# EAGLE library part AK4490 (library Fugu_LSI)
Premium 32-Bit 2ch DAC
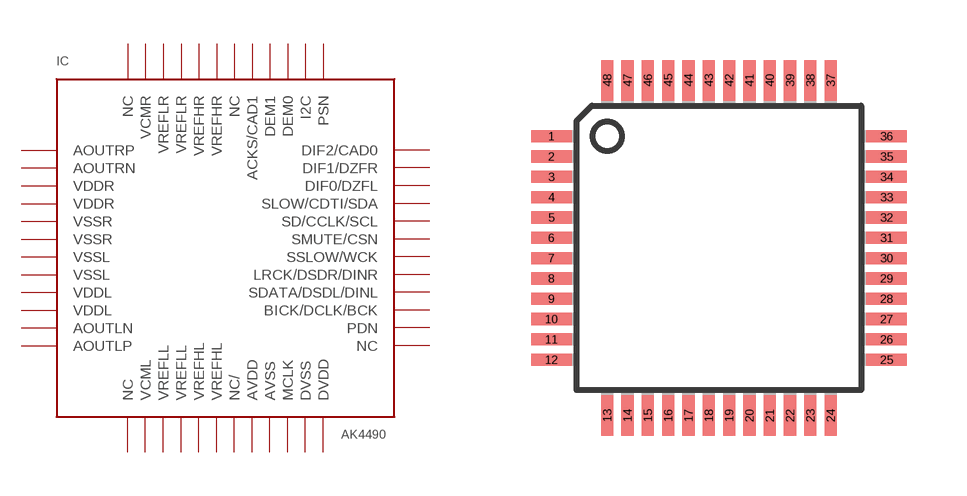
[diagram p3: symbol with the pads of TQFP48; footprint TQFP48]

Designator prefix IC

## AK4490  [TQFP48]
1  NC
2  PDN
3  BICK/DCLK/BCK
4  SDATA/DSDL/DINL
5  LRCK/DSDR/DINR
6  SSLOW/WCK
7  SMUTE/CSN
8  SD/CCLK/SCL
9  SLOW/CDTI/SDA
10  DIF0/DZFL
11  DIF1/DZFR
12  DIF2/CAD0
13  PSN
14  I2C
15  DEM0
16  DEM1
17  ACKS/CAD1
18  NC
19  VREFHR
20  VREFHR
21  VREFLR
22  VREFLR
23  VCMR
24  NC
25  AOUTRP
26  AOUTRN
27  VDDR
28  VDDR
29  VSSR
30  VSSR
31  VSSL
32  VSSL
33  VDDL
34  VDDL
35  AOUTLN
36  AOUTLP
37  NC
38  VCML
39  VREFLL
40  VREFLL
41  VREFHL
42  VREFHL
43  NC/
44  AVDD
45  AVSS
46  MCLK
47  DVSS
48  DVDD

## Footprint TQFP48 (pad centres in mm)
smd 1.016 x 0.305: 1 -4.191,2.794; 2 -4.191,2.286; 3 -4.191,1.778; 4 -4.191,1.27; 5 -4.191,0.762; 6 -4.191,0.254; 7 -4.191,-0.254; 8 -4.191,-0.762; 9 -4.191,-1.27; 10 -4.191,-1.778; 11 -4.191,-2.286; 12 -4.191,-2.794; 25 4.191,-2.794; 26 4.191,-2.286; 27 4.191,-1.778; 28 4.191,-1.27; 29 4.191,-0.762; 30 4.191,-0.254; 31 4.191,0.254; 32 4.191,0.762; 33 4.191,1.27; 34 4.191,1.778; 35 4.191,2.286; 36 4.191,2.794
smd 0.305 x 1.016: 13 -2.794,-4.191; 14 -2.286,-4.191; 15 -1.778,-4.191; 16 -1.27,-4.191; 17 -0.762,-4.191; 18 -0.254,-4.191; 19 0.254,-4.191; 20 0.762,-4.191; 21 1.27,-4.191; 22 1.778,-4.191; 23 2.286,-4.191; 24 2.794,-4.191; 37 2.794,4.191; 38 2.286,4.191; 39 1.778,4.191; 40 1.27,4.191; 41 0.762,4.191; 42 0.254,4.191; 43 -0.254,4.191; 44 -0.762,4.191; 45 -1.27,4.191; 46 -1.778,4.191; 47 -2.286,4.191; 48 -2.794,4.191